# EAGLE library part MAX260X (library FM_transmitter)
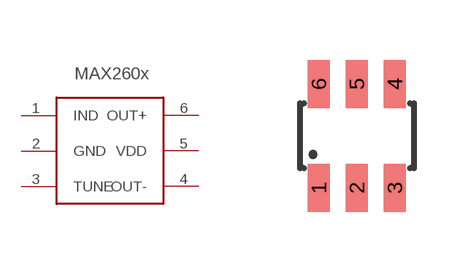
[diagram p4: symbol with the pads of SOT23-6; footprint SOT23-6]

Designator prefix -

## MAX260X  [SOT23-6]
1  IND
2  GND
3  TUNE
4  OUT-
5  VDD
6  OUT+

## Footprint SOT23-6 (pad centres in mm)
smd 0.55 x 1.2: 1 -0.95,-1.3; 2 0,-1.3; 3 0.95,-1.3; 4 0.95,1.3; 5 0,1.3; 6 -0.95,1.3